# EAGLE library part IGCM15F60GA (library IGCM15F60GA)
Motor / Motion / Ignition Controllers & Drivers MINI DUAL-IN-LINE 15A/600V W/NTC 24PIN Source: Datasheet <https://www.infineon.com/dgdl/Infineon-IGCM15F60GA-DS-v02_09-EN.pdf?fileId=5546d4624fb7fef2014fcb15c0597867>
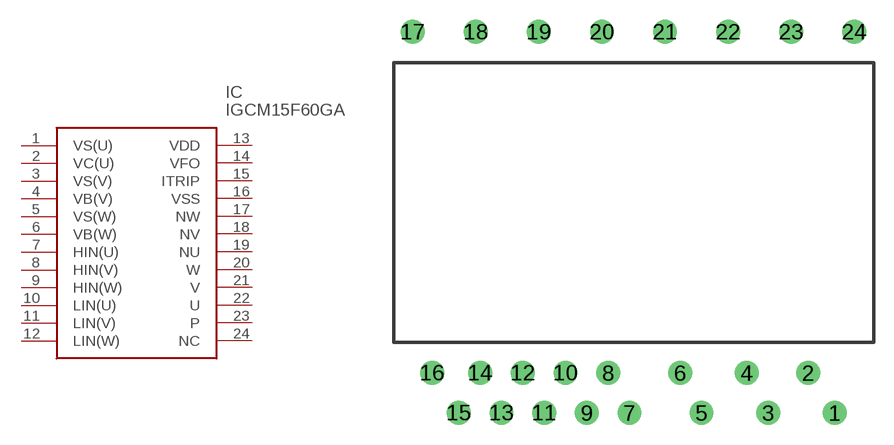
[diagram p0: symbol with the pads of IGCM15F60GA; footprint IGCM15F60GA]

Designator prefix IC

## IGCM15F60GA (Description: Motor / Motion / Ignition Controllers & Drivers MINI DUAL-IN-LINE 15A/600V W/NTC 24PIN; Height: mm; Manufacturer_Name: Infineon; Manufacturer_Part_Number: IGCM15F60GA; Mouser_Part_Number: 726-IGCM15F60GA; Mouser_Price-Stock: https://www.mouser.co.uk/ProductDetail/Infineon-Technologies/IGCM15F60GA?qs=r1cIj14McZcih4cckRrbqQ%3D%3D)  [IGCM15F60GA]
1  VS(U)
2  VC(U)
3  VS(V)
4  VB(V)
5  VS(W)
6  VB(W)
7  HIN(U)
8  HIN(V)
9  HIN(W)
10  LIN(U)
11  LIN(V)
12  LIN(W)
13  VDD
14  VFO
15  ITRIP
16  VSS
17  NW
18  NV
19  NU
20  W
21  V
22  U
23  P
24  NC  nc

## Footprint IGCM15F60GA (pad centres in mm)
IGCM15F60GA
drill 1.19 pad 1.79: 1 15.1,-15.8; 2 13.1,-12.8; 3 10.1,-15.8; 4 8.5,-12.8; 5 5.1,-15.8; 6 3.5,-12.8; 7 -0.3,-15.8; 8 -1.9,-12.8; 9 -3.5,-15.8; 10 -5.1,-12.8; 11 -6.7,-15.8; 12 -8.3,-12.8; 13 -9.9,-15.8; 14 -11.5,-12.8; 15 -13.1,-15.8; 16 -15.1,-12.8; 17 -16.555,12.8; 18 -11.825,12.8; 19 -7.095,12.8; 20 -2.365,12.8; 21 2.365,12.8; 22 7.095,12.8; 23 11.825,12.8; 24 16.555,12.8